# Altium schematic symbol library TopBoardConnector.SchLib: 1 symbol
Pins are listed as number, name and electrical type; pins without a type are passive.

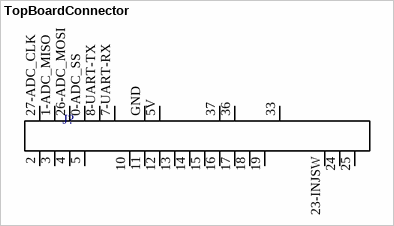
[diagram p0: symbol TopBoardConnector]

## TopBoardConnector
designator J?
Connection to the bottom board
footprint TopBoardConnector
pins: 0-ADC_SS, 1-ADC_MISO, 2, 3, 4, 5, 5V, 7-UART-RX 8-UART-RX, 8-UART-TX, 10, 11, 12, 13, 14, 15, 16, 17, 18, 19, 23-INJSW, 24, 25, 26-ADC_MOSI, 27-ADC_CLK, 33, 36, 37, GND